# Altium footprint library XTAL.PcbLib: 1 footprints
Each footprint in its own frame and in the unit in brackets; x right, y up, seen from the top. Pads: shape width x height; smd on the part's side, far side on the other; paste and mask are expansions set on the pad; w line width, h text height; cw(c..) or ccw(c..) is an arc to the next point about the centre after c.
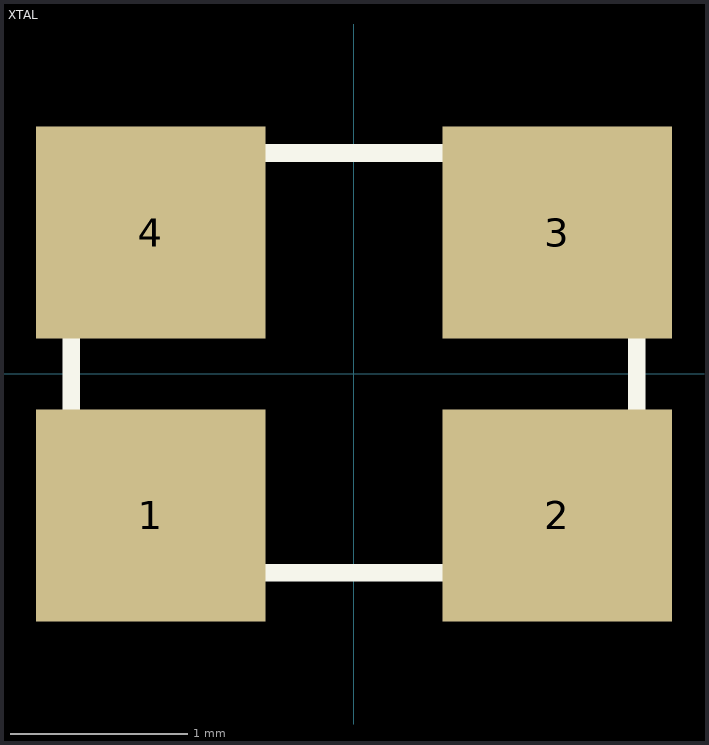
[diagram p0: the footprint, top view; thin cyan lines are the x and y axes]

## XTAL [mm]
pads (4):
  rect 1.3x1.2 smd: 1(-1.15,-0.8) 2(1.15,-0.8) 3(1.15,0.8) 4(-1.15,0.8)
Top Overlay:
  lines w0.1: 1.6,1.15 1.6,1.25 -1.6,1.25 -1.6,-1.125 1.6,-1.125 1.6,1.2